# Altium schematic symbol library SI8452AA-A-IS1R.Schlib: 1 symbol
Pins are listed as number, name and electrical type; pins without a type are passive.

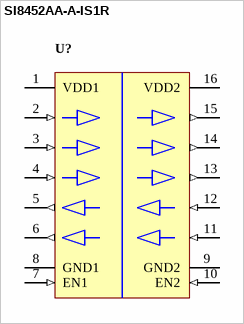
[diagram p0: symbol SI8452AA-A-IS1R]

## SI8452AA-A-IS1R
designator U?
pins: 1 VDD1 (power), 2 A1 (in), 3 A2 (in), 4 A3 (in), 5 A4 (out), 6 A5 (out), 7 EN1 (in), 8 GND1 (power), 9 GND2 (power), 10 EN2 (in), 11 B5 (in), 12 B4 (in), 13 B3 (out), 14 B2 (out), 15 B1 (out), 16 VDD2 (power)